# Altium footprint library con-cpci.PCBLIB: 25 footprints (part 2 of 2)
Each footprint in its own frame and in the unit in brackets; x right, y up, seen from the top. Pads: shape width x height; smd on the part's side, far side on the other; paste and mask are expansions set on the pad; w line width, h text height; cw(c..) or ccw(c..) is an arc to the next point about the centre after c.
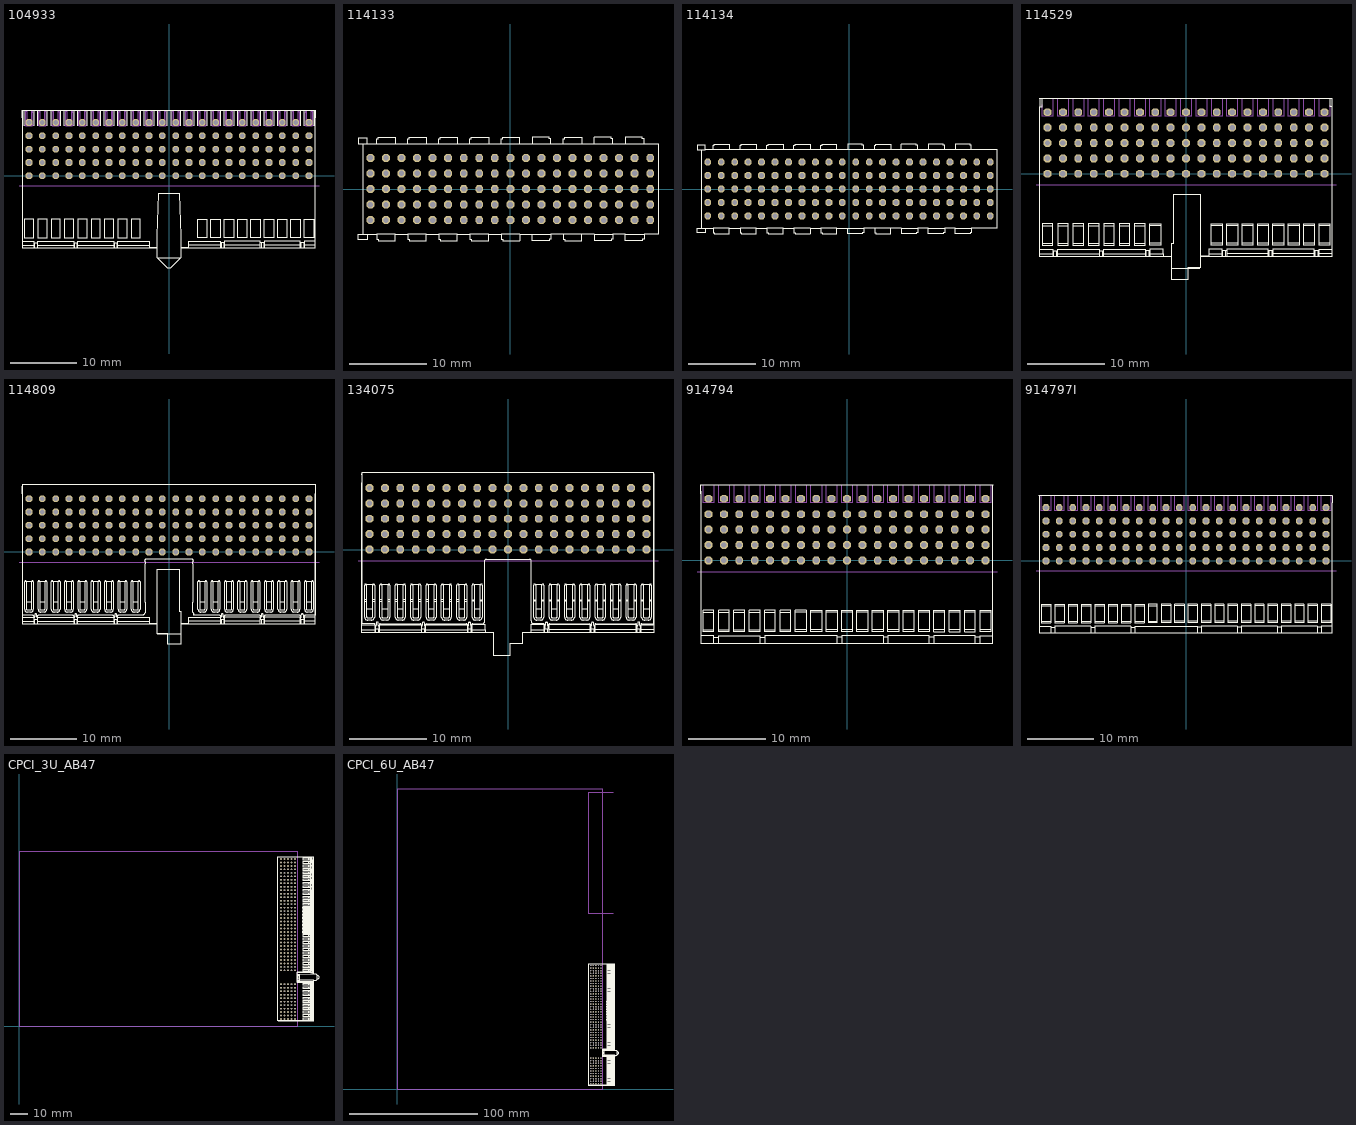
[diagram p1: the footprints below, top view; thin cyan lines are the x and y axes]

## 104933 [mil]
pads (110):
  oct 40x40 hole 27.56: A1(826.77,0) A2(748.03,0) A3(669.29,0) A4(590.55,0) A5(511.81,0) A6(433.07,0) A7(354.33,0) A8(275.59,0) A9(196.85,0) A10(118.11,0) A11(39.37,0) A12(-39.37,0) A13(-118.11,0) A14(-196.85,0) A15(-275.59,0) A16(-354.33,0) A17(-433.07,0) A18(-511.81,0) A19(-590.55,0) A20(-669.29,0) A21(-748.03,0) A22(-826.77,0) B1(826.77,78.74) B2(748.03,78.74) B3(669.29,78.74) B4(590.55,78.74) B5(511.81,78.74) B6(433.07,78.74) B7(354.33,78.74) B8(275.59,78.74) B9(196.85,78.74) B10(118.11,78.74) B11(39.37,78.74) B12(-39.37,78.74) B13(-118.11,78.74) B14(-196.85,78.74) B15(-275.59,78.74) B16(-354.33,78.74) B17(-433.07,78.74) B18(-511.81,78.74) B19(-590.55,78.74) B20(-669.29,78.74) B21(-748.03,78.74) B22(-826.77,78.74) C1(826.77,157.48) C2(748.03,157.48) C3(669.29,157.48) C4(590.55,157.48) C5(511.81,157.48) C6(433.07,157.48) C7(354.33,157.48) C8(275.59,157.48) C9(196.85,157.48) C10(118.11,157.48) C11(39.37,157.48) C12(-39.37,157.48) C13(-118.11,157.48) C14(-196.85,157.48) C15(-275.59,157.48) C16(-354.33,157.48) C17(-433.07,157.48) C18(-511.81,157.48) C19(-590.55,157.48) C20(-669.29,157.48) C21(-748.03,157.48) C22(-826.77,157.48) D1(826.77,236.22) D2(748.03,236.22) D3(669.29,236.22) D4(590.55,236.22) D5(511.81,236.22) D6(433.07,236.22) D7(354.33,236.22) D8(275.59,236.22) D9(196.85,236.22) D10(118.11,236.22) D11(39.37,236.22) D12(-39.37,236.22) D13(-118.11,236.22) D14(-196.85,236.22) D15(-275.59,236.22) D16(-354.33,236.22) D17(-433.07,236.22) D18(-511.81,236.22) D19(-590.55,236.22) D20(-669.29,236.22) D21(-748.03,236.22) D22(-826.77,236.22) E1(826.77,314.96) E2(748.03,314.96) E3(669.29,314.96) E4(590.55,314.96) E5(511.81,314.96) E6(433.07,314.96) E7(354.33,314.96) E8(275.59,314.96) E9(196.85,314.96) E10(118.11,314.96) E11(39.37,314.96) E12(-39.37,314.96) E13(-118.11,314.96) E14(-196.85,314.96) E15(-275.59,314.96) E16(-354.33,314.96) E17(-433.07,314.96) E18(-511.81,314.96) E19(-590.55,314.96) E20(-669.29,314.96) E21(-748.03,314.96) E22(-826.77,314.96)
Top Overlay:
  drawing of 296 lines, arcs and shapes, not listed
Mechanical 1:
  lines w0: -885.83,-59.06 885.83,-59.06
Mechanical 16:
  drawing of 286 lines, arcs and shapes, not listed

## 114133 [mil]
pads (95):
  oct 40x40 hole 27.56: A1(708.66,-157.48) A2(629.92,-157.48) A3(551.18,-157.48) A4(472.44,-157.48) A5(393.7,-157.48) A6(314.96,-157.48) A7(236.22,-157.48) A8(157.48,-157.48) A9(78.74,-157.48) A10(0,-157.48) A11(-78.74,-157.48) A12(-157.48,-157.48) A13(-236.22,-157.48) A14(-314.96,-157.48) A15(-393.7,-157.48) A16(-472.44,-157.48) A17(-551.18,-157.48) A18(-629.92,-157.48) A19(-708.66,-157.48) B1(708.66,-78.74) B2(629.92,-78.74) B3(551.18,-78.74) B4(472.44,-78.74) B5(393.7,-78.74) B6(314.96,-78.74) B7(236.22,-78.74) B8(157.48,-78.74) B9(78.74,-78.74) B10(0,-78.74) B11(-78.74,-78.74) B12(-157.48,-78.74) B13(-236.22,-78.74) B14(-314.96,-78.74) B15(-393.7,-78.74) B16(-472.44,-78.74) B17(-551.18,-78.74) B18(-629.92,-78.74) B19(-708.66,-78.74) C1(708.66,0) C2(629.92,0) C3(551.18,0) C4(472.44,0) C5(393.7,0) C6(314.96,0) C7(236.22,0) C8(157.48,0) C9(78.74,0) C10(0,0) C11(-78.74,0) C12(-157.48,0) C13(-236.22,0) C14(-314.96,0) C15(-393.7,0) C16(-472.44,0) C17(-551.18,0) C18(-629.92,0) C19(-708.66,0) D1(708.66,78.74) D2(629.92,78.74) D3(551.18,78.74) D4(472.44,78.74) D5(393.7,78.74) D6(314.96,78.74) D7(236.22,78.74) D8(157.48,78.74) D9(78.74,78.74) D10(0,78.74) D11(-78.74,78.74) D12(-157.48,78.74) D13(-236.22,78.74) D14(-314.96,78.74) D15(-393.7,78.74) D16(-472.44,78.74) D17(-551.18,78.74) D18(-629.92,78.74) D19(-708.66,78.74) E1(708.66,157.48) E2(629.92,157.48) E3(551.18,157.48) E4(472.44,157.48) E5(393.7,157.48) E6(314.96,157.48) E7(236.22,157.48) E8(157.48,157.48) E9(78.74,157.48) E10(0,157.48) E11(-78.74,157.48) E12(-157.48,157.48) E13(-236.22,157.48) E14(-314.96,157.48) E15(-393.7,157.48) E16(-472.44,157.48) E17(-551.18,157.48) E18(-629.92,157.48) E19(-708.66,157.48)
Top Overlay:
  lines w4: -748.03,228.35 -724.41,228.35 ; -677.17,228.35 -677.17,255.12 -669.29,255.12 -669.29,262.99 -582.68,262.99 -582.68,228.35 ; -519.69,228.35 -519.69,255.12 -511.81,255.12 -511.81,262.99 -425.2,262.99 -425.2,228.35 ; -362.2,228.35 -362.2,255.12 -354.33,255.12 -354.33,262.99 -267.72,262.99 -267.72,228.35 ; -204.72,228.35 -204.72,255.12 -196.85,255.12 -196.85,262.99 -110.24,262.99 -110.24,228.35 ; -47.24,228.35 -47.24,255.12 -39.37,255.12 -39.37,262.99 47.24,262.99 47.24,228.35 ; 110.24,228.35 110.24,262.99 196.85,262.99 196.85,255.12 204.72,255.12 204.72,228.35 ; 267.72,228.35 267.72,255.12 275.59,255.12 275.59,262.99 362.2,262.99 362.2,228.35 ; 425.2,228.35 425.2,262.99 511.81,262.99 511.81,255.12 519.69,255.12 519.69,228.35 ; 582.68,228.35 582.68,262.99 669.29,262.99 669.29,255.12 677.17,255.12 677.17,228.35 ; -748.03,-228.35 -748.03,230.32 -771.65,230.32 -771.65,255.91 -724.41,255.91 -724.41,228.35 ; -748.03,-228.35 -724.41,-228.35 ; -748.03,-228.35 -748.03,-230.32 -771.65,-230.32 -771.65,-255.91 -724.41,-255.91 -724.41,-228.35 ; -724.41,-228.35 -677.17,-228.35 ; -724.41,228.35 748.03,228.35 748.03,-228.35 677.17,-228.35 ; -677.17,-228.35 -582.68,-228.35 ; -677.17,-228.35 -677.17,-255.12 -669.29,-255.12 -669.29,-262.99 -582.68,-262.99 -582.68,-228.35 ; -582.68,-228.35 -519.69,-228.35 ; -519.69,-228.35 -425.2,-228.35 ; -519.69,-228.35 -519.69,-255.12 -511.81,-255.12 -511.81,-262.99 -425.2,-262.99 -425.2,-228.35 ; -425.2,-228.35 -362.2,-228.35 ; -362.2,-228.35 -267.72,-228.35 ; -362.2,-228.35 -362.2,-255.12 -354.33,-255.12 -354.33,-262.99 -267.72,-262.99 -267.72,-228.35 ; -267.72,-228.35 -204.72,-228.35 ; -204.72,-228.35 -110.24,-228.35 ; -204.72,-228.35 -204.72,-255.12 -196.85,-255.12 -196.85,-262.99 -110.24,-262.99 -110.24,-228.35 ; -110.24,-228.35 -47.24,-228.35 ; -47.24,-228.35 47.24,-228.35 ; -47.24,-228.35 -47.24,-255.12 -39.37,-255.12 -39.37,-262.99 47.24,-262.99 47.24,-228.35 ; 47.24,-228.35 110.24,-228.35 ; 110.24,-228.35 204.72,-228.35 ; 110.24,-228.35 110.24,-262.99 196.85,-262.99 196.85,-255.12 204.72,-255.12 204.72,-228.35 ; 204.72,-228.35 267.72,-228.35 ; 267.72,-228.35 362.2,-228.35 ; 267.72,-228.35 267.72,-255.12 275.59,-255.12 275.59,-262.99 362.2,-262.99 362.2,-228.35 ; 362.2,-228.35 425.2,-228.35 ; 425.2,-228.35 519.69,-228.35 ; 425.2,-228.35 425.2,-262.99 511.81,-262.99 511.81,-255.12 519.69,-255.12 519.69,-228.35 ; 519.69,-228.35 582.68,-228.35 ; 582.68,-228.35 677.17,-228.35 ; 582.68,-228.35 582.68,-262.99 669.29,-262.99 669.29,-255.12 677.17,-255.12 677.17,-228.35

## 114134 [mil]
pads (110):
  oct 40x40 hole 27.56: A1(826.77,-157.48) A2(748.03,-157.48) A3(669.29,-157.48) A4(590.55,-157.48) A5(511.81,-157.48) A6(433.07,-157.48) A7(354.33,-157.48) A8(275.59,-157.48) A9(196.85,-157.48) A10(118.11,-157.48) A11(39.37,-157.48) A12(-39.37,-157.48) A13(-118.11,-157.48) A14(-196.85,-157.48) A15(-275.59,-157.48) A16(-354.33,-157.48) A17(-433.07,-157.48) A18(-511.81,-157.48) A19(-590.55,-157.48) A20(-669.29,-157.48) A21(-748.03,-157.48) A22(-826.77,-157.48) B1(826.77,-78.74) B2(748.03,-78.74) B3(669.29,-78.74) B4(590.55,-78.74) B5(511.81,-78.74) B6(433.07,-78.74) B7(354.33,-78.74) B8(275.59,-78.74) B9(196.85,-78.74) B10(118.11,-78.74) B11(39.37,-78.74) B12(-39.37,-78.74) B13(-118.11,-78.74) B14(-196.85,-78.74) B15(-275.59,-78.74) B16(-354.33,-78.74) B17(-433.07,-78.74) B18(-511.81,-78.74) B19(-590.55,-78.74) B20(-669.29,-78.74) B21(-748.03,-78.74) B22(-826.77,-78.74) C1(826.77,0) C2(748.03,0) C3(669.29,0) C4(590.55,0) C5(511.81,0) C6(433.07,0) C7(354.33,0) C8(275.59,0) C9(196.85,0) C10(118.11,0) C11(39.37,0) C12(-39.37,0) C13(-118.11,0) C14(-196.85,0) C15(-275.59,0) C16(-354.33,0) C17(-433.07,0) C18(-511.81,0) C19(-590.55,0) C20(-669.29,0) C21(-748.03,0) C22(-826.77,0) D1(826.77,78.74) D2(748.03,78.74) D3(669.29,78.74) D4(590.55,78.74) D5(511.81,78.74) D6(433.07,78.74) D7(354.33,78.74) D8(275.59,78.74) D9(196.85,78.74) D10(118.11,78.74) D11(39.37,78.74) D12(-39.37,78.74) D13(-118.11,78.74) D14(-196.85,78.74) D15(-275.59,78.74) D16(-354.33,78.74) D17(-433.07,78.74) D18(-511.81,78.74) D19(-590.55,78.74) D20(-669.29,78.74) D21(-748.03,78.74) D22(-826.77,78.74) E1(826.77,157.48) E2(748.03,157.48) E3(669.29,157.48) E4(590.55,157.48) E5(511.81,157.48) E6(433.07,157.48) E7(354.33,157.48) E8(275.59,157.48) E9(196.85,157.48) E10(118.11,157.48) E11(39.37,157.48) E12(-39.37,157.48) E13(-118.11,157.48) E14(-196.85,157.48) E15(-275.59,157.48) E16(-354.33,157.48) E17(-433.07,157.48) E18(-511.81,157.48) E19(-590.55,157.48) E20(-669.29,157.48) E21(-748.03,157.48) E22(-826.77,157.48)
Top Overlay:
  lines w4: -866.14,228.35 -842.52,228.35 ; -795.28,228.35 -795.28,255.12 -787.4,255.12 -787.4,262.99 -700.79,262.99 -700.79,228.35 ; -637.8,228.35 -637.8,255.12 -629.92,255.12 -629.92,262.99 -543.31,262.99 -543.31,228.35 ; -480.32,228.35 -480.32,255.12 -472.44,255.12 -472.44,262.99 -385.83,262.99 -385.83,228.35 ; -322.83,228.35 -322.83,255.12 -314.96,255.12 -314.96,262.99 -228.35,262.99 -228.35,228.35 ; -165.35,228.35 -165.35,255.12 -157.48,255.12 -157.48,262.99 -70.87,262.99 -70.87,228.35 ; -7.87,228.35 -7.87,262.99 78.74,262.99 78.74,255.12 86.61,255.12 86.61,228.35 ; 149.61,228.35 149.61,255.12 157.48,255.12 157.48,262.99 244.09,262.99 244.09,228.35 ; 307.09,228.35 307.09,262.99 393.7,262.99 393.7,255.12 401.57,255.12 401.57,228.35 ; 464.57,228.35 464.57,262.99 551.18,262.99 551.18,255.12 559.06,255.12 559.06,228.35 ; 622.05,228.35 622.05,262.99 708.66,262.99 708.66,255.12 716.54,255.12 716.54,228.35 ; -866.14,-228.35 -866.14,230.32 -889.76,230.32 -889.76,255.91 -842.52,255.91 -842.52,228.35 ; -866.14,-228.35 -842.52,-228.35 ; -866.14,-228.35 -866.14,-230.32 -889.76,-230.32 -889.76,-255.91 -842.52,-255.91 -842.52,-228.35 ; -842.52,-228.35 -795.28,-228.35 ; -842.52,228.35 866.14,228.35 866.14,-228.35 716.54,-228.35 ; -795.28,-228.35 -700.79,-228.35 ; -795.28,-228.35 -795.28,-255.12 -787.4,-255.12 -787.4,-262.99 -700.79,-262.99 -700.79,-228.35 ; -700.79,-228.35 -637.8,-228.35 ; -637.8,-228.35 -543.31,-228.35 ; -637.8,-228.35 -637.8,-255.12 -629.92,-255.12 -629.92,-262.99 -543.31,-262.99 -543.31,-228.35 ; -543.31,-228.35 -480.32,-228.35 ; -480.32,-228.35 -385.83,-228.35 ; -480.32,-228.35 -480.32,-255.12 -472.44,-255.12 -472.44,-262.99 -385.83,-262.99 -385.83,-228.35 ; -385.83,-228.35 -322.83,-228.35 ; -322.83,-228.35 -228.35,-228.35 ; -322.83,-228.35 -322.83,-255.12 -314.96,-255.12 -314.96,-262.99 -228.35,-262.99 -228.35,-228.35 ; -228.35,-228.35 -165.35,-228.35 ; -165.35,-228.35 -165.35,-255.12 -157.48,-255.12 -157.48,-262.99 -70.87,-262.99 -70.87,-228.35 ; -165.35,-228.35 -70.87,-228.35 ; -70.87,-228.35 -7.87,-228.35 ; -7.87,-228.35 86.61,-228.35 ; -7.87,-228.35 -7.87,-262.99 78.74,-262.99 78.74,-255.12 86.61,-255.12 86.61,-228.35 ; 86.61,-228.35 149.61,-228.35 ; 149.61,-228.35 244.09,-228.35 ; 149.61,-228.35 149.61,-255.12 157.48,-255.12 157.48,-262.99 244.09,-262.99 244.09,-228.35 ; 244.09,-228.35 307.09,-228.35 ; 307.09,-228.35 401.57,-228.35 ; 307.09,-228.35 307.09,-262.99 393.7,-262.99 393.7,-255.12 401.57,-255.12 401.57,-228.35 ; 401.57,-228.35 464.57,-228.35 ; 464.57,-228.35 559.06,-228.35 ; 464.57,-228.35 464.57,-262.99 551.18,-262.99 551.18,-255.12 559.06,-255.12 559.06,-228.35 ; 559.06,-228.35 622.05,-228.35 ; 622.05,-228.35 716.54,-228.35 ; 622.05,-228.35 622.05,-262.99 708.66,-262.99 708.66,-255.12 716.54,-255.12 716.54,-228.35

## 114529 [mil]
pads (95):
  oct 40x40 hole 27.56: A1(708.66,0) A2(629.92,0) A3(551.18,0) A4(472.44,0) A5(393.7,0) A6(314.96,0) A7(236.22,0) A8(157.48,0) A9(78.74,0) A10(0,0) A11(-78.74,0) A12(-157.48,0) A13(-236.22,0) A14(-314.96,0) A15(-393.7,0) A16(-472.44,0) A17(-551.18,0) A18(-629.92,0) A19(-708.66,0) B1(708.66,78.74) B2(629.92,78.74) B3(551.18,78.74) B4(472.44,78.74) B5(393.7,78.74) B6(314.96,78.74) B7(236.22,78.74) B8(157.48,78.74) B9(78.74,78.74) B10(0,78.74) B11(-78.74,78.74) B12(-157.48,78.74) B13(-236.22,78.74) B14(-314.96,78.74) B15(-393.7,78.74) B16(-472.44,78.74) B17(-551.18,78.74) B18(-629.92,78.74) B19(-708.66,78.74) C1(708.66,157.48) C2(629.92,157.48) C3(551.18,157.48) C4(472.44,157.48) C5(393.7,157.48) C6(314.96,157.48) C7(236.22,157.48) C8(157.48,157.48) C9(78.74,157.48) C10(0,157.48) C11(-78.74,157.48) C12(-157.48,157.48) C13(-236.22,157.48) C14(-314.96,157.48) C15(-393.7,157.48) C16(-472.44,157.48) C17(-551.18,157.48) C18(-629.92,157.48) C19(-708.66,157.48) D1(708.66,236.22) D2(629.92,236.22) D3(551.18,236.22) D4(472.44,236.22) D5(393.7,236.22) D6(314.96,236.22) D7(236.22,236.22) D8(157.48,236.22) D9(78.74,236.22) D10(0,236.22) D11(-78.74,236.22) D12(-157.48,236.22) D13(-236.22,236.22) D14(-314.96,236.22) D15(-393.7,236.22) D16(-472.44,236.22) D17(-551.18,236.22) D18(-629.92,236.22) D19(-708.66,236.22) E1(708.66,314.96) E2(629.92,314.96) E3(551.18,314.96) E4(472.44,314.96) E5(393.7,314.96) E6(314.96,314.96) E7(236.22,314.96) E8(157.48,314.96) E9(78.74,314.96) E10(0,314.96) E11(-78.74,314.96) E12(-157.48,314.96) E13(-236.22,314.96) E14(-314.96,314.96) E15(-393.7,314.96) E16(-472.44,314.96) E17(-551.18,314.96) E18(-629.92,314.96) E19(-708.66,314.96)
Top Overlay:
  drawing of 246 lines, arcs and shapes, not listed
Mechanical 1:
  lines w0: -767.72,-59.06 767.72,-59.06
Mechanical 16:
  lines w4: -735.55,352.43 -735.55,294.71 -681.57,294.71 -681.57,383.3 ; -656.81,383.3 -656.81,294.71 -602.83,294.71 -602.83,383.3 ; -578.07,383.3 -578.07,294.71 -524.09,294.71 -524.09,383.3 ; -499.33,383.3 -499.33,294.71 -445.35,294.71 -445.35,383.3 ; -420.59,383.3 -420.59,294.71 -366.61,294.71 -366.61,383.3 ; -341.85,383.3 -341.85,294.71 -287.87,294.71 -287.87,383.3 ; -263.11,383.3 -263.11,294.71 -209.13,294.71 -209.13,383.3 ; -184.37,383.3 -184.37,294.71 -130.39,294.71 -130.39,383.3 ; -105.63,383.3 -105.63,294.71 -51.65,294.71 -51.65,383.3 ; -26.89,383.3 -26.89,294.71 27.09,294.71 27.09,383.3 ; 51.85,383.3 51.85,294.71 105.83,294.71 105.83,383.3 ; 130.59,383.3 130.59,294.71 184.57,294.71 184.57,383.3 ; 209.33,383.3 209.33,294.71 263.31,294.71 263.31,383.3 ; 288.07,383.3 288.07,294.71 342.05,294.71 342.05,383.3 ; 366.82,383.3 366.82,294.71 420.79,294.71 420.79,383.3 ; 445.56,383.3 445.56,294.71 499.53,294.71 499.53,383.3 ; 524.3,383.3 524.3,294.71 578.27,294.71 578.27,383.3 ; 603.04,383.3 603.04,294.71 657.01,294.71 657.01,383.3 ; 681.78,383.3 681.78,294.71 735.75,294.71 735.75,352.03

## 114809 [mil]
pads (110):
  oct 40x40 hole 27.56: A1(826.77,0) A2(748.03,0) A3(669.29,0) A4(590.55,0) A5(511.81,0) A6(433.07,0) A7(354.33,0) A8(275.59,0) A9(196.85,0) A10(118.11,0) A11(39.37,0) A12(-39.37,0) A13(-118.11,0) A14(-196.85,0) A15(-275.59,0) A16(-354.33,0) A17(-433.07,0) A18(-511.81,0) A19(-590.55,0) A20(-669.29,0) A21(-748.03,0) A22(-826.77,0) B1(826.77,78.74) B2(748.03,78.74) B3(669.29,78.74) B4(590.55,78.74) B5(511.81,78.74) B6(433.07,78.74) B7(354.33,78.74) B8(275.59,78.74) B9(196.85,78.74) B10(118.11,78.74) B11(39.37,78.74) B12(-39.37,78.74) B13(-118.11,78.74) B14(-196.85,78.74) B15(-275.59,78.74) B16(-354.33,78.74) B17(-433.07,78.74) B18(-511.81,78.74) B19(-590.55,78.74) B20(-669.29,78.74) B21(-748.03,78.74) B22(-826.77,78.74) C1(826.77,157.48) C2(748.03,157.48) C3(669.29,157.48) C4(590.55,157.48) C5(511.81,157.48) C6(433.07,157.48) C7(354.33,157.48) C8(275.59,157.48) C9(196.85,157.48) C10(118.11,157.48) C11(39.37,157.48) C12(-39.37,157.48) C13(-118.11,157.48) C14(-196.85,157.48) C15(-275.59,157.48) C16(-354.33,157.48) C17(-433.07,157.48) C18(-511.81,157.48) C19(-590.55,157.48) C20(-669.29,157.48) C21(-748.03,157.48) C22(-826.77,157.48) D1(826.77,236.22) D2(748.03,236.22) D3(669.29,236.22) D4(590.55,236.22) D5(511.81,236.22) D6(433.07,236.22) D7(354.33,236.22) D8(275.59,236.22) D9(196.85,236.22) D10(118.11,236.22) D11(39.37,236.22) D12(-39.37,236.22) D13(-118.11,236.22) D14(-196.85,236.22) D15(-275.59,236.22) D16(-354.33,236.22) D17(-433.07,236.22) D18(-511.81,236.22) D19(-590.55,236.22) D20(-669.29,236.22) D21(-748.03,236.22) D22(-826.77,236.22) E1(826.77,314.96) E2(748.03,314.96) E3(669.29,314.96) E4(590.55,314.96) E5(511.81,314.96) E6(433.07,314.96) E7(354.33,314.96) E8(275.59,314.96) E9(196.85,314.96) E10(118.11,314.96) E11(39.37,314.96) E12(-39.37,314.96) E13(-118.11,314.96) E14(-196.85,314.96) E15(-275.59,314.96) E16(-354.33,314.96) E17(-433.07,314.96) E18(-511.81,314.96) E19(-590.55,314.96) E20(-669.29,314.96) E21(-748.03,314.96) E22(-826.77,314.96)
Top Overlay:
  drawing of 437 lines, arcs and shapes, not listed
Mechanical 1:
  lines w0: -885.83,-59.06 885.83,-59.06

## 134075 [mil]
pads (95):
  oct 40x40 hole 27.56: A1(708.66,0) A2(629.92,0) A3(551.18,0) A4(472.44,0) A5(393.7,0) A6(314.96,0) A7(236.22,0) A8(157.48,0) A9(78.74,0) A10(0,0) A11(-78.74,0) A12(-157.48,0) A13(-236.22,0) A14(-314.96,0) A15(-393.7,0) A16(-472.44,0) A17(-551.18,0) A18(-629.92,0) A19(-708.66,0) B1(708.66,78.74) B2(629.92,78.74) B3(551.18,78.74) B4(472.44,78.74) B5(393.7,78.74) B6(314.96,78.74) B7(236.22,78.74) B8(157.48,78.74) B9(78.74,78.74) B10(0,78.74) B11(-78.74,78.74) B12(-157.48,78.74) B13(-236.22,78.74) B14(-314.96,78.74) B15(-393.7,78.74) B16(-472.44,78.74) B17(-551.18,78.74) B18(-629.92,78.74) B19(-708.66,78.74) C1(708.66,157.48) C2(629.92,157.48) C3(551.18,157.48) C4(472.44,157.48) C5(393.7,157.48) C6(314.96,157.48) C7(236.22,157.48) C8(157.48,157.48) C9(78.74,157.48) C10(0,157.48) C11(-78.74,157.48) C12(-157.48,157.48) C13(-236.22,157.48) C14(-314.96,157.48) C15(-393.7,157.48) C16(-472.44,157.48) C17(-551.18,157.48) C18(-629.92,157.48) C19(-708.66,157.48) D1(708.66,236.22) D2(629.92,236.22) D3(551.18,236.22) D4(472.44,236.22) D5(393.7,236.22) D6(314.96,236.22) D7(236.22,236.22) D8(157.48,236.22) D9(78.74,236.22) D10(0,236.22) D11(-78.74,236.22) D12(-157.48,236.22) D13(-236.22,236.22) D14(-314.96,236.22) D15(-393.7,236.22) D16(-472.44,236.22) D17(-551.18,236.22) D18(-629.92,236.22) D19(-708.66,236.22) E1(708.66,314.96) E2(629.92,314.96) E3(551.18,314.96) E4(472.44,314.96) E5(393.7,314.96) E6(314.96,314.96) E7(236.22,314.96) E8(157.48,314.96) E9(78.74,314.96) E10(0,314.96) E11(-78.74,314.96) E12(-157.48,314.96) E13(-236.22,314.96) E14(-314.96,314.96) E15(-393.7,314.96) E16(-472.44,314.96) E17(-551.18,314.96) E18(-629.92,314.96) E19(-708.66,314.96)
Top Overlay:
  drawing of 459 lines, arcs and shapes, not listed
Mechanical 1:
  lines w0: -767.72,-59.06 767.72,-59.06

## 914794 [mil]
pads (95):
  oct 40x40 hole 27.56: A1(708.66,0) A2(629.92,0) A3(551.18,0) A4(472.44,0) A5(393.7,0) A6(314.96,0) A7(236.22,0) A8(157.48,0) A9(78.74,0) A10(0,0) A11(-78.74,0) A12(-157.48,0) A13(-236.22,0) A14(-314.96,0) A15(-393.7,0) A16(-472.44,0) A17(-551.18,0) A18(-629.92,0) A19(-708.66,0) B1(708.66,78.74) B2(629.92,78.74) B3(551.18,78.74) B4(472.44,78.74) B5(393.7,78.74) B6(314.96,78.74) B7(236.22,78.74) B8(157.48,78.74) B9(78.74,78.74) B10(0,78.74) B11(-78.74,78.74) B12(-157.48,78.74) B13(-236.22,78.74) B14(-314.96,78.74) B15(-393.7,78.74) B16(-472.44,78.74) B17(-551.18,78.74) B18(-629.92,78.74) B19(-708.66,78.74) C1(708.66,157.48) C2(629.92,157.48) C3(551.18,157.48) C4(472.44,157.48) C5(393.7,157.48) C6(314.96,157.48) C7(236.22,157.48) C8(157.48,157.48) C9(78.74,157.48) C10(0,157.48) C11(-78.74,157.48) C12(-157.48,157.48) C13(-236.22,157.48) C14(-314.96,157.48) C15(-393.7,157.48) C16(-472.44,157.48) C17(-551.18,157.48) C18(-629.92,157.48) C19(-708.66,157.48) D1(708.66,236.22) D2(629.92,236.22) D3(551.18,236.22) D4(472.44,236.22) D5(393.7,236.22) D6(314.96,236.22) D7(236.22,236.22) D8(157.48,236.22) D9(78.74,236.22) D10(0,236.22) D11(-78.74,236.22) D12(-157.48,236.22) D13(-236.22,236.22) D14(-314.96,236.22) D15(-393.7,236.22) D16(-472.44,236.22) D17(-551.18,236.22) D18(-629.92,236.22) D19(-708.66,236.22) E1(708.66,314.96) E2(629.92,314.96) E3(551.18,314.96) E4(472.44,314.96) E5(393.7,314.96) E6(314.96,314.96) E7(236.22,314.96) E8(157.48,314.96) E9(78.74,314.96) E10(0,314.96) E11(-78.74,314.96) E12(-157.48,314.96) E13(-236.22,314.96) E14(-314.96,314.96) E15(-393.7,314.96) E16(-472.44,314.96) E17(-551.18,314.96) E18(-629.92,314.96) E19(-708.66,314.96)
Top Overlay:
  drawing of 167 lines, arcs and shapes, not listed
Mechanical 16:
  lines w4: -735.55,383.3 -735.55,294.71 -681.57,294.71 -681.57,383.3 ; -656.81,383.3 -656.81,294.71 -602.83,294.71 -602.83,383.3 ; -578.07,383.3 -578.07,294.71 -524.09,294.71 -524.09,383.3 ; -499.33,383.3 -499.33,294.71 -445.35,294.71 -445.35,383.3 ; -420.59,383.3 -420.59,294.71 -366.61,294.71 -366.61,383.3 ; -341.85,383.3 -341.85,294.71 -287.87,294.71 -287.87,383.3 ; -263.11,383.3 -263.11,294.71 -209.13,294.71 -209.13,383.3 ; -184.37,383.3 -184.37,294.71 -130.39,294.71 -130.39,383.3 ; -105.63,383.3 -105.63,294.71 -51.65,294.71 -51.65,383.3 ; -26.89,383.3 -26.89,294.71 27.09,294.71 27.09,383.3 ; 51.85,383.3 51.85,294.71 105.83,294.71 105.83,383.3 ; 130.59,383.3 130.59,294.71 184.57,294.71 184.57,383.3 ; 209.33,383.3 209.33,294.71 263.31,294.71 263.31,383.3 ; 288.07,383.3 288.07,294.71 342.05,294.71 342.05,383.3 ; 366.82,383.3 366.82,294.71 420.79,294.71 420.79,383.3 ; 445.56,383.3 445.56,294.71 499.53,294.71 499.53,383.3 ; 524.3,383.3 524.3,294.71 578.27,294.71 578.27,383.3 ; 603.04,383.3 603.04,294.71 657.01,294.71 657.01,383.3 ; 681.78,383.3 681.78,294.71 735.75,294.71 735.75,383.3
Mechanical 21:
  lines w0: -767.72,-59.06 767.72,-59.06

## 914797I [mil]
pads (110):
  oct 40x40 hole 27.56: A1(826.77,0) A2(748.03,0) A3(669.29,0) A4(590.55,0) A5(511.81,0) A6(433.07,0) A7(354.33,0) A8(275.59,0) A9(196.85,0) A10(118.11,0) A11(39.37,0) A12(-39.37,0) A13(-118.11,0) A14(-196.85,0) A15(-275.59,0) A16(-354.33,0) A17(-433.07,0) A18(-511.81,0) A19(-590.55,0) A20(-669.29,0) A21(-748.03,0) A22(-826.77,0) B1(826.77,78.74) B2(748.03,78.74) B3(669.29,78.74) B4(590.55,78.74) B5(511.81,78.74) B6(433.07,78.74) B7(354.33,78.74) B8(275.59,78.74) B9(196.85,78.74) B10(118.11,78.74) B11(39.37,78.74) B12(-39.37,78.74) B13(-118.11,78.74) B14(-196.85,78.74) B15(-275.59,78.74) B16(-354.33,78.74) B17(-433.07,78.74) B18(-511.81,78.74) B19(-590.55,78.74) B20(-669.29,78.74) B21(-748.03,78.74) B22(-826.77,78.74) C1(826.77,157.48) C2(748.03,157.48) C3(669.29,157.48) C4(590.55,157.48) C5(511.81,157.48) C6(433.07,157.48) C7(354.33,157.48) C8(275.59,157.48) C9(196.85,157.48) C10(118.11,157.48) C11(39.37,157.48) C12(-39.37,157.48) C13(-118.11,157.48) C14(-196.85,157.48) C15(-275.59,157.48) C16(-354.33,157.48) C17(-433.07,157.48) C18(-511.81,157.48) C19(-590.55,157.48) C20(-669.29,157.48) C21(-748.03,157.48) C22(-826.77,157.48) D1(826.77,236.22) D2(748.03,236.22) D3(669.29,236.22) D4(590.55,236.22) D5(511.81,236.22) D6(433.07,236.22) D7(354.33,236.22) D8(275.59,236.22) D9(196.85,236.22) D10(118.11,236.22) D11(39.37,236.22) D12(-39.37,236.22) D13(-118.11,236.22) D14(-196.85,236.22) D15(-275.59,236.22) D16(-354.33,236.22) D17(-433.07,236.22) D18(-511.81,236.22) D19(-590.55,236.22) D20(-669.29,236.22) D21(-748.03,236.22) D22(-826.77,236.22) E1(826.77,314.96) E2(748.03,314.96) E3(669.29,314.96) E4(590.55,314.96) E5(511.81,314.96) E6(433.07,314.96) E7(354.33,314.96) E8(275.59,314.96) E9(196.85,314.96) E10(118.11,314.96) E11(39.37,314.96) E12(-39.37,314.96) E13(-118.11,314.96) E14(-196.85,314.96) E15(-275.59,314.96) E16(-354.33,314.96) E17(-433.07,314.96) E18(-511.81,314.96) E19(-590.55,314.96) E20(-669.29,314.96) E21(-748.03,314.96) E22(-826.77,314.96)
Top Overlay:
  drawing of 194 lines, arcs and shapes, not listed
Mechanical 1:
  lines w0: -885.83,-59.06 885.83,-59.06
Mechanical 16:
  lines w4: -853.66,384.09 -853.66,295.5 -799.69,295.5 -799.69,384.09 ; -774.92,384.09 -774.92,295.5 -720.94,295.5 -720.94,384.09 ; -696.18,384.09 -696.18,295.5 -642.2,295.5 -642.2,384.09 ; -617.44,384.09 -617.44,295.5 -563.46,295.5 -563.46,384.09 ; -538.7,384.09 -538.7,295.5 -484.72,295.5 -484.72,384.09 ; -459.96,384.09 -459.96,295.5 -405.98,295.5 -405.98,384.09 ; -381.22,384.09 -381.22,295.5 -327.24,295.5 -327.24,384.09 ; -302.48,384.09 -302.48,295.5 -248.5,295.5 -248.5,384.09 ; -223.74,384.09 -223.74,295.5 -169.76,295.5 -169.76,384.09 ; -145,384.09 -145,295.5 -91.02,295.5 -91.02,384.09 ; -66.26,384.09 -66.26,295.5 -12.28,295.5 -12.28,384.09 ; 12.48,384.09 12.48,295.5 66.46,295.5 66.46,384.09 ; 91.22,384.09 91.22,295.5 145.2,295.5 145.2,384.09 ; 169.96,384.09 169.96,295.5 223.94,295.5 223.94,384.09 ; 248.7,384.09 248.7,295.5 302.68,295.5 302.68,384.09 ; 327.44,384.09 327.44,295.5 381.42,295.5 381.42,384.09 ; 406.19,384.09 406.19,295.5 460.16,295.5 460.16,384.09 ; 484.93,384.09 484.93,295.5 538.9,295.5 538.9,384.09 ; 563.67,384.09 563.67,295.5 617.64,295.5 617.64,384.09 ; 642.41,384.09 642.41,295.5 696.38,295.5 696.38,384.09 ; 721.15,384.09 721.15,295.5 775.12,295.5 775.12,384.09 ; 799.89,384.09 799.89,295.5 853.86,295.5 853.86,384.09

## CPCI_3U_AB47 [mil]
pads (220):
  oct 40x40 hole 27.56: A1(6240.16,3779.53) A2(6240.16,3700.79) A3(6240.16,3622.05) A4(6240.16,3543.31) A5(6240.16,3464.57) A6(6240.16,3385.83) A7(6240.16,3307.09) A8(6240.16,3228.35) A9(6240.16,3149.61) A10(6240.16,3070.87) A11(6240.16,2992.13) A12(6240.16,2913.39) A13(6240.16,2834.65) A14(6240.16,2755.91) A15(6240.16,2677.17) A16(6240.16,2598.43) A17(6240.16,2519.69) A18(6240.16,2440.94) A19(6240.16,2362.2) A20(6240.16,2283.46) A21(6240.16,2204.72) A22(6240.16,2125.98) A23(6240.16,2047.24) A24(6240.16,1968.5) A25(6240.16,1889.76) A26(6240.16,1811.02) A27(6240.16,1732.28) A28(6240.16,1653.54) A29(6240.16,1574.8) A30(6240.16,1496.06) A31(6240.16,1417.32) A32(6240.16,1338.58) A33(6240.16,1259.84) A37(6240.16,944.88) A38(6240.16,866.14) A39(6240.16,787.4) A40(6240.16,708.66) A41(6240.16,629.92) A42(6240.16,551.18) A43(6240.16,472.44) A44(6240.16,393.7) A45(6240.16,314.96) A46(6240.16,236.22) A47(6240.16,157.48) B1(6161.42,3779.53) B2(6161.42,3700.79) B3(6161.42,3622.05) B4(6161.42,3543.31) B5(6161.42,3464.57) B6(6161.42,3385.83) B7(6161.42,3307.09) B8(6161.42,3228.35) B9(6161.42,3149.61) B10(6161.42,3070.87) B11(6161.42,2992.13) B12(6161.42,2913.39) B13(6161.42,2834.65) B14(6161.42,2755.91) B15(6161.42,2677.17) B16(6161.42,2598.43) B17(6161.42,2519.69) B18(6161.42,2440.94) B19(6161.42,2362.2) B20(6161.42,2283.46) B21(6161.42,2204.72) B22(6161.42,2125.98) B23(6161.42,2047.24) B24(6161.42,1968.5) B25(6161.42,1889.76) B26(6161.42,1811.02) B27(6161.42,1732.28) B28(6161.42,1653.54) B29(6161.42,1574.8) B30(6161.42,1496.06) B31(6161.42,1417.32) B32(6161.42,1338.58) B33(6161.42,1259.84) B37(6161.42,944.88) B38(6161.42,866.14) B39(6161.42,787.4) B40(6161.42,708.66) B41(6161.42,629.92) B42(6161.42,551.18) B43(6161.42,472.44) B44(6161.42,393.7) B45(6161.42,314.96) B46(6161.42,236.22) B47(6161.42,157.48) C1(6082.68,3779.53) C2(6082.68,3700.79) C3(6082.68,3622.05) C4(6082.68,3543.31) C5(6082.68,3464.57) C6(6082.68,3385.83) C7(6082.68,3307.09) C8(6082.68,3228.35) C9(6082.68,3149.61) C10(6082.68,3070.87) C11(6082.68,2992.13) C12(6082.68,2913.39) C13(6082.68,2834.65) C14(6082.68,2755.91) C15(6082.68,2677.17) C16(6082.68,2598.43) C17(6082.68,2519.69) C18(6082.68,2440.94) C19(6082.68,2362.2) C20(6082.68,2283.46) C21(6082.68,2204.72) C22(6082.68,2125.98) C23(6082.68,2047.24) C24(6082.68,1968.5) C25(6082.68,1889.76) C26(6082.68,1811.02) C27(6082.68,1732.28) C28(6082.68,1653.54) C29(6082.68,1574.8) C30(6082.68,1496.06) C31(6082.68,1417.32) C32(6082.68,1338.58) C33(6082.68,1259.84) C37(6082.68,944.88) C38(6082.68,866.14) C39(6082.68,787.4) C40(6082.68,708.66) C41(6082.68,629.92) C42(6082.68,551.18) C43(6082.68,472.44) C44(6082.68,393.7) C45(6082.68,314.96) C46(6082.68,236.22) C47(6082.68,157.48) D1(6003.94,3779.53) D2(6003.94,3700.79) D3(6003.94,3622.05) D4(6003.94,3543.31) D5(6003.94,3464.57) D6(6003.94,3385.83) D7(6003.94,3307.09) D8(6003.94,3228.35) D9(6003.94,3149.61) D10(6003.94,3070.87) D11(6003.94,2992.13) D12(6003.94,2913.39) D13(6003.94,2834.65) D14(6003.94,2755.91) D15(6003.94,2677.17) D16(6003.94,2598.43) D17(6003.94,2519.69) D18(6003.94,2440.94) D19(6003.94,2362.2) D20(6003.94,2283.46) D21(6003.94,2204.72) D22(6003.94,2125.98) D23(6003.94,2047.24) D24(6003.94,1968.5) D25(6003.94,1889.76) D26(6003.94,1811.02) D27(6003.94,1732.28) D28(6003.94,1653.54) D29(6003.94,1574.8) D30(6003.94,1496.06) D31(6003.94,1417.32) D32(6003.94,1338.58) D33(6003.94,1259.84) D37(6003.94,944.88) D38(6003.94,866.14) D39(6003.94,787.4) D40(6003.94,708.66) D41(6003.94,629.92) D42(6003.94,551.18) D43(6003.94,472.44) D44(6003.94,393.7) D45(6003.94,314.96) D46(6003.94,236.22) D47(6003.94,157.48) E1(5925.2,3779.53) E2(5925.2,3700.79) E3(5925.2,3622.05) E4(5925.2,3543.31) E5(5925.2,3464.57) E6(5925.2,3385.83) E7(5925.2,3307.09) E8(5925.2,3228.35) E9(5925.2,3149.61) E10(5925.2,3070.87) E11(5925.2,2992.13) E12(5925.2,2913.39) E13(5925.2,2834.65) E14(5925.2,2755.91) E15(5925.2,2677.17) E16(5925.2,2598.43) E17(5925.2,2519.69) E18(5925.2,2440.94) E19(5925.2,2362.2) E20(5925.2,2283.46) E21(5925.2,2204.72) E22(5925.2,2125.98) E23(5925.2,2047.24) E24(5925.2,1968.5) E25(5925.2,1889.76) E26(5925.2,1811.02) E27(5925.2,1732.28) E28(5925.2,1653.54) E29(5925.2,1574.8) E30(5925.2,1496.06) E31(5925.2,1417.32) E32(5925.2,1338.58) E33(5925.2,1259.84) E37(5925.2,944.88) E38(5925.2,866.14) E39(5925.2,787.4) E40(5925.2,708.66) E41(5925.2,629.92) E42(5925.2,551.18) E43(5925.2,472.44) E44(5925.2,393.7) E45(5925.2,314.96) E46(5925.2,236.22) E47(5925.2,157.48)
Top Overlay:
  drawing of 1170 lines, arcs and shapes, not listed
Mechanical 1:
  lines w0: 6299.21,78.74 6299.21,3858.27 ; 0,0 6299.21,0 6299.21,3937.01 0,3937.01 0,0

## CPCI_6U_AB47 [mil]
pads (220):
  oct 40x40 hole 27.56: A1(6240.16,3779.53) A2(6240.16,3700.79) A3(6240.16,3622.05) A4(6240.16,3543.31) A5(6240.16,3464.57) A6(6240.16,3385.83) A7(6240.16,3307.09) A8(6240.16,3228.35) A9(6240.16,3149.61) A10(6240.16,3070.87) A11(6240.16,2992.13) A12(6240.16,2913.39) A13(6240.16,2834.65) A14(6240.16,2755.91) A15(6240.16,2677.17) A16(6240.16,2598.43) A17(6240.16,2519.69) A18(6240.16,2440.94) A19(6240.16,2362.2) A20(6240.16,2283.46) A21(6240.16,2204.72) A22(6240.16,2125.98) A23(6240.16,2047.24) A24(6240.16,1968.5) A25(6240.16,1889.76) A26(6240.16,1811.02) A27(6240.16,1732.28) A28(6240.16,1653.54) A29(6240.16,1574.8) A30(6240.16,1496.06) A31(6240.16,1417.32) A32(6240.16,1338.58) A33(6240.16,1259.84) A37(6240.16,944.88) A38(6240.16,866.14) A39(6240.16,787.4) A40(6240.16,708.66) A41(6240.16,629.92) A42(6240.16,551.18) A43(6240.16,472.44) A44(6240.16,393.7) A45(6240.16,314.96) A46(6240.16,236.22) A47(6240.16,157.48) B1(6161.42,3779.53) B2(6161.42,3700.79) B3(6161.42,3622.05) B4(6161.42,3543.31) B5(6161.42,3464.57) B6(6161.42,3385.83) B7(6161.42,3307.09) B8(6161.42,3228.35) B9(6161.42,3149.61) B10(6161.42,3070.87) B11(6161.42,2992.13) B12(6161.42,2913.39) B13(6161.42,2834.65) B14(6161.42,2755.91) B15(6161.42,2677.17) B16(6161.42,2598.43) B17(6161.42,2519.69) B18(6161.42,2440.94) B19(6161.42,2362.2) B20(6161.42,2283.46) B21(6161.42,2204.72) B22(6161.42,2125.98) B23(6161.42,2047.24) B24(6161.42,1968.5) B25(6161.42,1889.76) B26(6161.42,1811.02) B27(6161.42,1732.28) B28(6161.42,1653.54) B29(6161.42,1574.8) B30(6161.42,1496.06) B31(6161.42,1417.32) B32(6161.42,1338.58) B33(6161.42,1259.84) B37(6161.42,944.88) B38(6161.42,866.14) B39(6161.42,787.4) B40(6161.42,708.66) B41(6161.42,629.92) B42(6161.42,551.18) B43(6161.42,472.44) B44(6161.42,393.7) B45(6161.42,314.96) B46(6161.42,236.22) B47(6161.42,157.48) C1(6082.68,3779.53) C2(6082.68,3700.79) C3(6082.68,3622.05) C4(6082.68,3543.31) C5(6082.68,3464.57) C6(6082.68,3385.83) C7(6082.68,3307.09) C8(6082.68,3228.35) C9(6082.68,3149.61) C10(6082.68,3070.87) C11(6082.68,2992.13) C12(6082.68,2913.39) C13(6082.68,2834.65) C14(6082.68,2755.91) C15(6082.68,2677.17) C16(6082.68,2598.43) C17(6082.68,2519.69) C18(6082.68,2440.94) C19(6082.68,2362.2) C20(6082.68,2283.46) C21(6082.68,2204.72) C22(6082.68,2125.98) C23(6082.68,2047.24) C24(6082.68,1968.5) C25(6082.68,1889.76) C26(6082.68,1811.02) C27(6082.68,1732.28) C28(6082.68,1653.54) C29(6082.68,1574.8) C30(6082.68,1496.06) C31(6082.68,1417.32) C32(6082.68,1338.58) C33(6082.68,1259.84) C37(6082.68,944.88) C38(6082.68,866.14) C39(6082.68,787.4) C40(6082.68,708.66) C41(6082.68,629.92) C42(6082.68,551.18) C43(6082.68,472.44) C44(6082.68,393.7) C45(6082.68,314.96) C46(6082.68,236.22) C47(6082.68,157.48) D1(6003.94,3779.53) D2(6003.94,3700.79) D3(6003.94,3622.05) D4(6003.94,3543.31) D5(6003.94,3464.57) D6(6003.94,3385.83) D7(6003.94,3307.09) D8(6003.94,3228.35) D9(6003.94,3149.61) D10(6003.94,3070.87) D11(6003.94,2992.13) D12(6003.94,2913.39) D13(6003.94,2834.65) D14(6003.94,2755.91) D15(6003.94,2677.17) D16(6003.94,2598.43) D17(6003.94,2519.69) D18(6003.94,2440.94) D19(6003.94,2362.2) D20(6003.94,2283.46) D21(6003.94,2204.72) D22(6003.94,2125.98) D23(6003.94,2047.24) D24(6003.94,1968.5) D25(6003.94,1889.76) D26(6003.94,1811.02) D27(6003.94,1732.28) D28(6003.94,1653.54) D29(6003.94,1574.8) D30(6003.94,1496.06) D31(6003.94,1417.32) D32(6003.94,1338.58) D33(6003.94,1259.84) D37(6003.94,944.88) D38(6003.94,866.14) D39(6003.94,787.4) D40(6003.94,708.66) D41(6003.94,629.92) D42(6003.94,551.18) D43(6003.94,472.44) D44(6003.94,393.7) D45(6003.94,314.96) D46(6003.94,236.22) D47(6003.94,157.48) E1(5925.2,3779.53) E2(5925.2,3700.79) E3(5925.2,3622.05) E4(5925.2,3543.31) E5(5925.2,3464.57) E6(5925.2,3385.83) E7(5925.2,3307.09) E8(5925.2,3228.35) E9(5925.2,3149.61) E10(5925.2,3070.87) E11(5925.2,2992.13) E12(5925.2,2913.39) E13(5925.2,2834.65) E14(5925.2,2755.91) E15(5925.2,2677.17) E16(5925.2,2598.43) E17(5925.2,2519.69) E18(5925.2,2440.94) E19(5925.2,2362.2) E20(5925.2,2283.46) E21(5925.2,2204.72) E22(5925.2,2125.98) E23(5925.2,2047.24) E24(5925.2,1968.5) E25(5925.2,1889.76) E26(5925.2,1811.02) E27(5925.2,1732.28) E28(5925.2,1653.54) E29(5925.2,1574.8) E30(5925.2,1496.06) E31(5925.2,1417.32) E32(5925.2,1338.58) E33(5925.2,1259.84) E37(5925.2,944.88) E38(5925.2,866.14) E39(5925.2,787.4) E40(5925.2,708.66) E41(5925.2,629.92) E42(5925.2,551.18) E43(5925.2,472.44) E44(5925.2,393.7) E45(5925.2,314.96) E46(5925.2,236.22) E47(5925.2,157.48)
Top Overlay:
  drawing of 1170 lines, arcs and shapes, not listed
Mechanical 1:
  lines w0: 6299.21,78.74 6299.21,3858.27 ; 6299.21,5328.74 6299.21,9108.27 ; 0,0 6299.21,0 6299.21,9187.01 0,9187.01 0,0
Mechanical 14:
  lines w0: 6618.11,5370.08 5842.13,5370.08 5842.13,9066.93 6618.11,9066.93